# Altium schematic symbol library DMC4029SSD.Schlib: 1 symbol
Pins are listed as number, name and electrical type; pins without a type are passive.

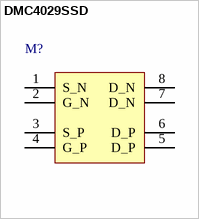
[diagram p0: symbol DMC4029SSD]

## DMC4029SSD
designator M?
complementary pair enhancement mode mosfet
pins: 1 S_N, 2 G_N, 3 S_P, 4 G_P, 5 D_P, 6 D_P, 7 D_N, 8 D_N